# Altium footprint library QFN0P300X300X80_HS-13N.PcbLib: 1 footprints
Each footprint in its own frame and in the unit in brackets; x right, y up, seen from the top. Pads: shape width x height; smd on the part's side, far side on the other; paste and mask are expansions set on the pad; w line width, h text height; cw(c..) or ccw(c..) is an arc to the next point about the centre after c.
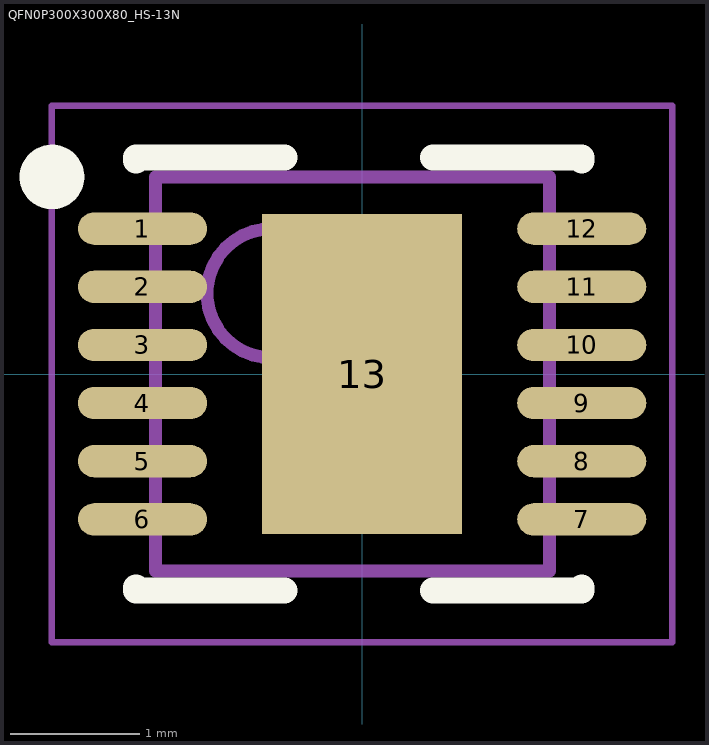
[diagram p0: the footprint, top view; thin cyan lines are the x and y axes]

## QFN0P300X300X80_HS-13N [mm] "QFN, 12-Leads, Body 3.00x3.00mm, Pitch 0.00mm/0.45mm, Thermal Pad 1.55x2.48mm, IPC Medium Density WDFN-12"
height 0.8
pads (13):
  oval 1x0.25 smd: 1(-1.7,1.125) 2(-1.7,0.675) 3(-1.7,0.225) 4(-1.7,-0.225) 5(-1.7,-0.675) 6(-1.7,-1.125) 7(1.7,-1.125) 8(1.7,-0.675) 9(1.7,-0.225) 10(1.7,0.225) 11(1.7,0.675) 12(1.7,1.125)
  rect 1.55x2.48 smd: 13(0,0)
Top Overlay:
  circle w0.25: c-2.4,1.525 r0.125
  lines w0.2: -1.75,-1.65 -1.75,-1.675 -0.6,-1.675 ; -1.75,1.65 -1.75,1.675 -0.6,1.675 ; 0.55,-1.675 1.7,-1.675 1.7,-1.65 ; 0.55,1.675 1.7,1.675 1.7,1.65
Mechanical 2:
  circle w0.1: c-0.7,0.625 r0.5
  lines w0.1: -1.6,-1.525 1.45,-1.525 1.45,1.525 -1.6,1.525 -1.6,-1.525
Mechanical 4:
  lines w0.05: -2.4,-2.075 2.4,-2.075 2.4,2.075 -2.4,2.075 -2.4,-2.075
  lines w0.1: -0.5,0 0.5,0 ; 0,-0.5 0,0.5
3D body "QFN0P300X300X80_HS-13N.step": height 0.8, standoff 0, extent -1.601,-1.525 1.451,1.525